# EAGLE library part MIC2619 (library SmartMDCPrint)
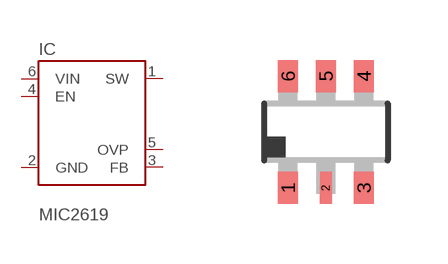
[diagram p11: symbol with the pads of SOT23-6; footprint SOT23-6]

Designator prefix IC

## MIC2619YD6  [SOT23-6]
1  SW  in
2  GND  pwr
3  FB  in
4  EN  in
5  OVP  in
6  VIN  pwr

## Footprint SOT23-6 (pad centres in mm)
SOT23-6
smd 0.5 x 0.8: 1 -0.95,-1.397; 3 0.95,-1.397; 4 0.95,1.397; 5 0,1.397; 6 -0.95,1.397
smd 0.297 x 0.8: 2 0,-1.397